# Altium schematic symbol library Schlib1.SchLib: 1 symbol
Pins are listed as number, name and electrical type; pins without a type are passive.

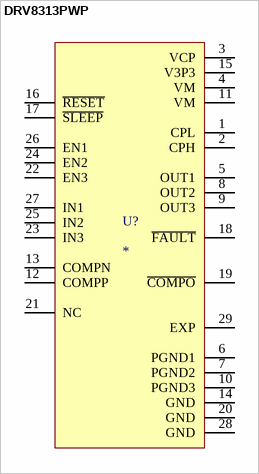
[diagram p0: symbol DRV8313PWP]

## DRV8313PWP
designator U?
Motor Driver Power MOSFET Parallel 28-HTSSOP; Manufacturer: Texas Instruments; Manufacturer Part Number: DRV8313PWPR; Number of Outputs: 1; Output Current: 1.75A; Min Supply Voltage: 8V; Max Supply Voltage: 60V; Supplier 1: Mouser; RoHS: Yes; Category: Motor Drivers; Stock 1: 1916; Pricing 1: 1=3,73, 10=3,35, 50=3,16, 100=2,74, 1000=1,99, 10000=1,92 (USD); Mount: Surface Mount; Case/Package: HTSSOP; Number of Pins: 28; Min Operating Temperature: -40°C; Max Operating Temperature: 125°C; Packaging: Tape and Reel; Package Quantity: 2000; Series: -; Interface: Parallel; Lead Free: Lead Free; RoHS Compliant: Yes; ComponentLink1URL: https://datasheet.ciiva.com/24105/slvsba5a-261520-24105611.pdf?src-supplier=Mouser; ComponentLink1Description: https://datasheet.ciiva.com/24105/slvsba5a-261520-24105611.pdf?src-supplier=Mouser; ComponentLink2URL: https://datasheet.ciiva.com/6607/drv8313-6607795.pdf?src-supplier=Digi-Key; ComponentLink2Description: https://datasheet.ciiva.com/6607/drv8313-6607795.pdf?src-supplier=Digi-Key; Supplier Part Number 1: 595-DRV8313PWPR
footprint DRV8313
pins: 1 CPL (oc), 2 CPH (oc), 3 VCP (oc), 4 VM (oc), 5 OUT1 (oc), 6 PGND1 (oc), 7 PGND2 (oc), 8 OUT2 (oc), 9 OUT3 (oc), 10 PGND3 (oc), 11 VM (oc), 12 COMPP (oc), 13 COMPN (oc), 14 GND (oc), 15 V3P3 (oc), 16 ~{RESET} (oc), 17 ~{SLEEP} (oc), 18 ~{FAULT} (oc), 19 ~{COMPO} (oc), 20 GND (oc), 21 NC (oc), 22 EN3 (oc), 23 IN3 (oc), 24 EN2 (oc), 25 IN2 (oc), 26 EN1 (oc), 27 IN1 (oc), 28 GND (oc), 29 EXP (oc)